# Altium schematic symbol library MAX20008AFOC_VY+T.SchLib: 1 symbol
Pins are listed as number, name and electrical type; pins without a type are passive.

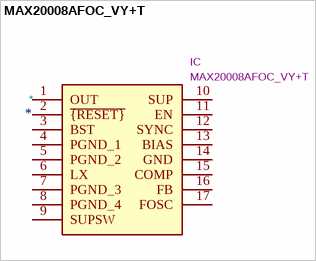
[diagram p0: symbol MAX20008AFOC_VY+T]

## MAX20008AFOC_VY+T
designator *  value MAX20008AFOC_VY+T  Reference: IC
Manufacturer_Name: Analog Devices; Manufacturer_Part_Number: MAX20008AFOC/VY+T; ki_description: Switching Voltage Regulators 36V, 220kHz to 2.2MHz, 4A/6A/8A Fully integrated step down converter; Footprint: MAX20008AFOCVYT; Datasheet: https://componentsearchengine.com//MAX20008AFOC_VY+T.pdf; Height: 0.75; Mouser Part Number: 700-MAX20008AFOC/VYT; Mouser Price/Stock: https://www.mouser.co.uk/ProductDetail/Analog-Devices-Maxim-Integrated/MAX20008AFOC-VY%2bT?qs=vLWxofP3U2wvQQR8GkDmgw%3D%3D; Arrow Part Number: MAX20008AFOC/VY+T; Arrow Price/Stock: https://www.arrow.com/en/products/max20008afocvyt/maxim-integrated?region=nac
pins: 1 OUT, 2 ~{{RESET}}, 3 BST, 4 PGND_1, 5 PGND_2, 6 LX, 7 PGND_3, 8 PGND_4, 9 SUPSW, 10 SUP, 11 EN, 12 SYNC, 13 BIAS, 14 GND, 15 COMP, 16 FB, 17 FOSC